# EAGLE library part TLV3501*? (library TLV350x)
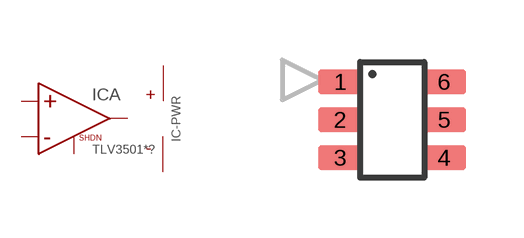
[diagram p0: symbol with the pads of SOT23-6; footprint SOT23-6]

Designator prefix IC; gates A=OPAMP_SHDN -PWR=PWR

## TLV3501AIDBV (MARK: NXA; MF: Texas Instruments; MPN: TLV3501AIDBVR)  [SOT23-6]
1  A:INV  in
2  -PWR:V-  pwr
3  A:NINV  in
4  -PWR:V+  pwr
5  A:OUT  out
6  A:SHDN  in

## Footprint SOT23-6 (pad centres in mm)
Small Outline Transistor 6 lead
smd 1.1 x 0.6: 1 -1.3,0.95; 2 -1.3,0; 3 -1.3,-0.95; 4 1.3,-0.95; 5 1.3,0; 6 1.3,0.95